# EAGLE library part LT5560 (library AnalogDevices)
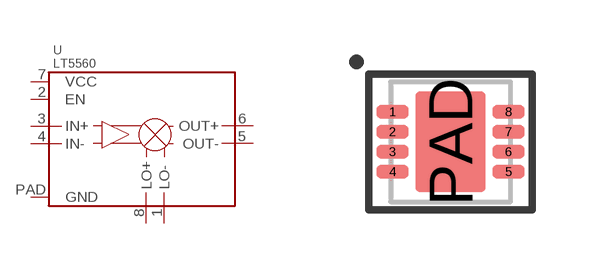
[diagram p12: symbol with the pads of DFN-8-3MM; footprint DFN-8-3MM]

Designator prefix U

## LT5560EDD#PBF  [DFN-8-3MM]
1  LO-
2  EN
3  IN+
4  IN-
5  OUT-
6  OUT+
7  VCC
8  LO+
PAD  GND

## Footprint DFN-8-3MM (pad centres in mm)
smd 0.8 x 0.325: 1 -1.45,0.75; 2 -1.45,0.25; 3 -1.45,-0.25; 4 -1.45,-0.75; 5 1.45,-0.75; 6 1.45,-0.25; 7 1.45,0.25; 8 1.45,0.75
smd 1.75 x 2.5: PAD 0,0